# Altium schematic symbol library VND5025.SchLib: 1 symbol
Pins are listed as number, name and electrical type; pins without a type are passive.

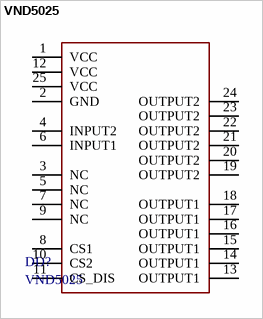
[diagram p0: symbol VND5025]

## VND5025
designator DD?
Double channel high side driver with analog current sense for automotive applications
pins: 1 VCC, 2 GND, 3 NC, 4 INPUT2, 5 NC, 6 INPUT1, 7 NC, 8 CS1, 9 NC, 10 CS2, 11 CS_DIS, 12 VCC, 13 OUTPUT1, 14 OUTPUT1, 15 OUTPUT1, 16 OUTPUT1, 17 OUTPUT1, 18 OUTPUT1, 19 OUTPUT2, 20 OUTPUT2, 21 OUTPUT2, 22 OUTPUT2, 23 OUTPUT2, 24 OUTPUT2, 25 VCC